# Altium schematic symbol library Microchip Power Management Switching Regulator.SchLib: 304 symbols (part 7 of 8)
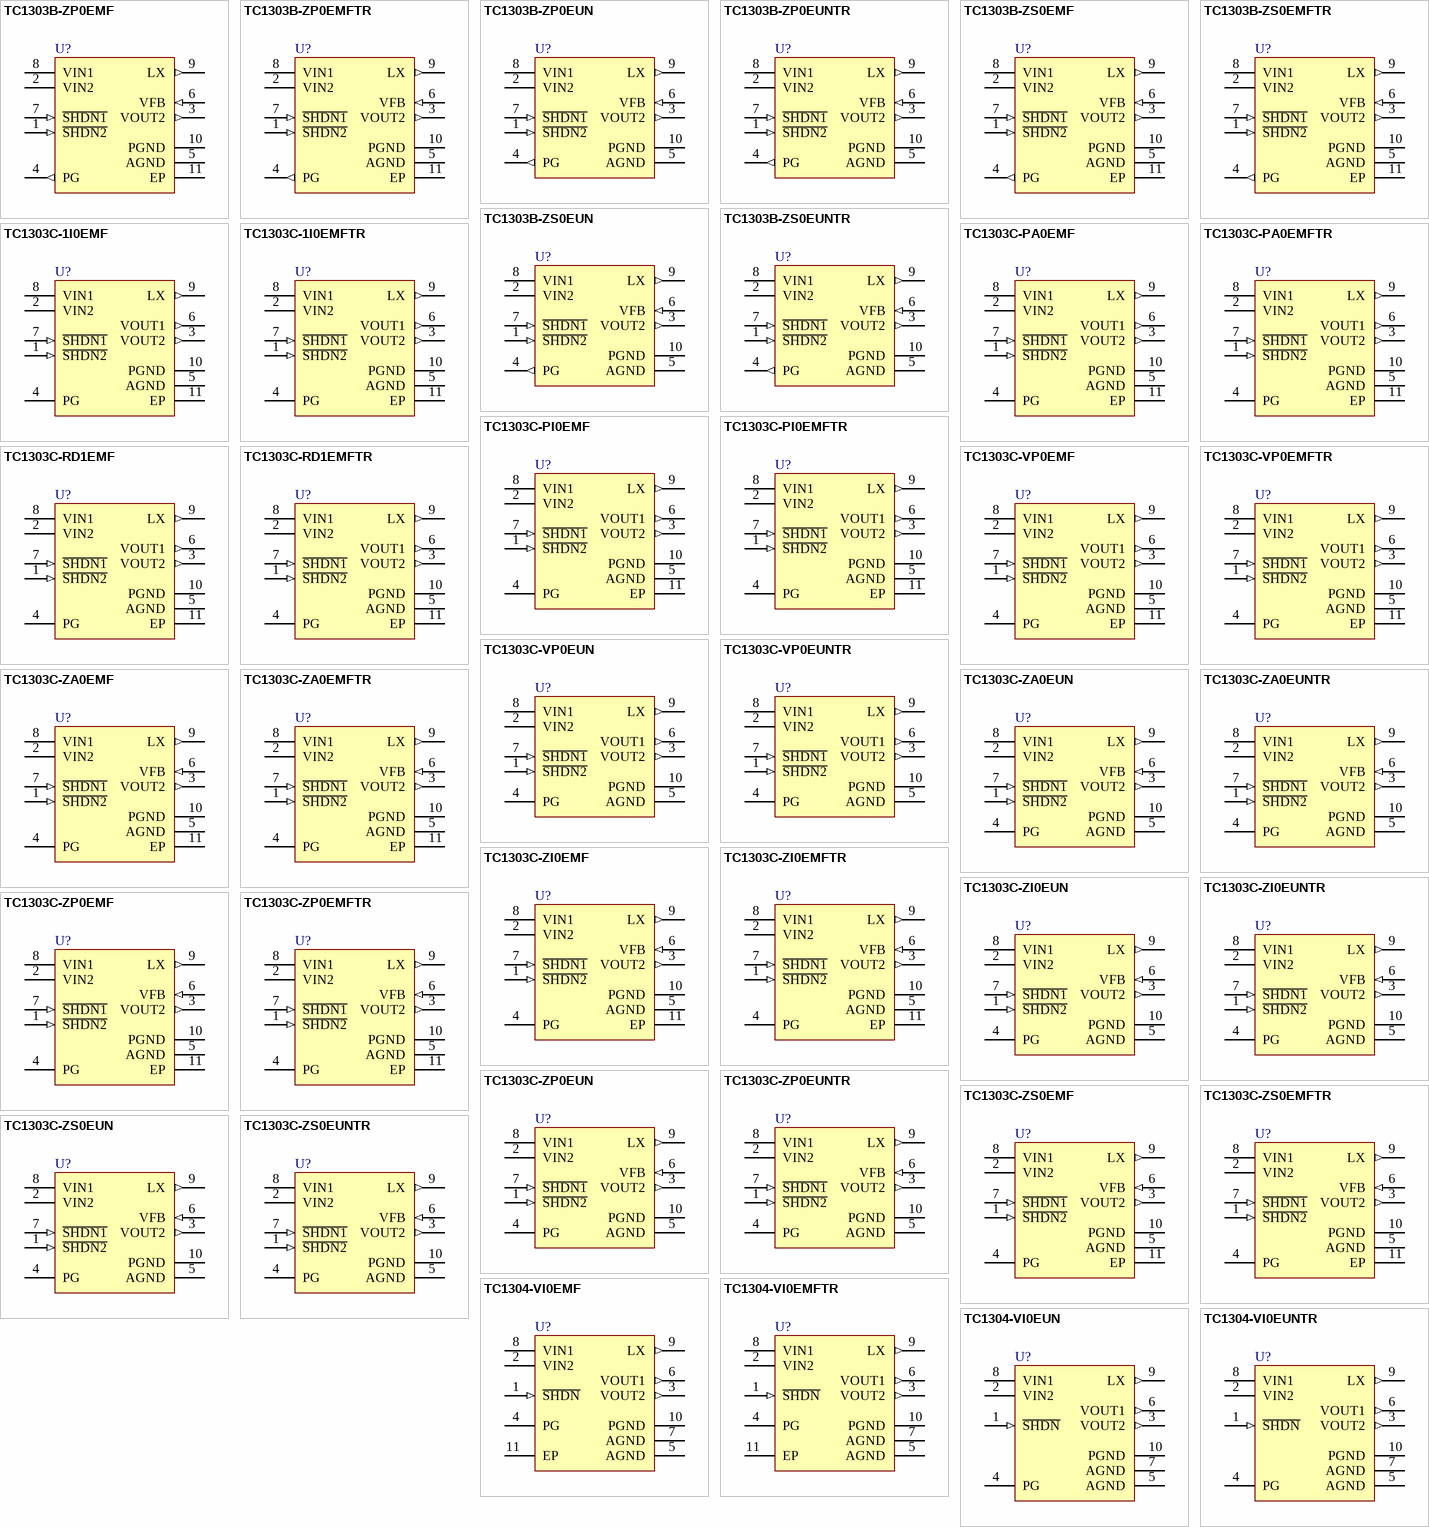
[diagram p13: symbols TC1303B-ZP0EMF to TC1304-VI0EUNTR]

## TC1303C-ZI0EUNTR
designator U?
500mA Synchronous Buck Regulator + 300mA LDO with Power-Good Output, Adjustable, 2.5V, 10-Pin MSOP, Industrial Temperature, Tape and Reel; Manufacturer: Microchip; PartNumber: TC1303C-ZI0EUNTR; DatasheetVersion: revB, Jul-2005; PackageVersion: revBB, Aug-2009; PackageReference: MSOP-UN10; PackageDescription: 10-Lead Plastic Micro Small Outline Package (UN) [MSOP]; Supplier 1: Digi-Key; Supplier Part Number 1: TC1303C-ZI0EUNTR-ND; Mounting Technology: Surface Mount; ComponentLink1Description: Manufacturer URL; ComponentLink1URL: http://www.microchip.com/; ComponentLink2Description: Datasheet; ComponentLink2URL: http://ww1.microchip.com/downloads/en/DeviceDoc/21949b.pdf; ComponentLink3Description: Package Specification; ComponentLink3URL: http://www.microchip.com/stellent/groups/techpub_sg/documents/packagingspec/en012702.pdf
footprint MSOP-UN10_N (TSSOP, 10-Leads, Body 3x3mm, Pitch 0.5mm, IPC Medium Density)
footprint MSOP-UN10_L (TSSOP, 10-Leads, Body 3x3mm, Pitch 0.5mm, IPC High Density)
footprint MSOP-UN10_M (TSSOP, 10-Leads, Body 3x3mm, Pitch 0.5mm, IPC Low Density)
pins: 1 ~{SHDN2} (in), 2 VIN2 (power), 3 VOUT2 (out), 4 PG (oc), 5 AGND (power), 6 VFB (in), 7 ~{SHDN1} (in), 8 VIN1 (power), 9 LX (out), 10 PGND (power)

## TC1303C-ZP0EMF
designator U?
500mA Synchronous Buck Regulator + 300mA LDO with Power-Good Output, Adjustable, 1.8V, 10-Pin DFN, Industrial Temperature; Manufacturer: Microchip; PartNumber: TC1303C-ZP0EMF; DatasheetVersion: revB, Jul-2005; PackageVersion: revBB, Aug-2009; PackageReference: DFN-MF10; PackageDescription: 10-Lead Plastic Dual Flat, No Lead Package (MF) - 3x3x0.9mm Body [DFN]; Supplier 1: Digi-Key; Supplier Part Number 1: TC1303C-ZP0EMF-ND; Mounting Technology: Surface Mount; ComponentLink1Description: Manufacturer URL; ComponentLink1URL: http://www.microchip.com/; ComponentLink2Description: Datasheet; ComponentLink2URL: http://ww1.microchip.com/downloads/en/DeviceDoc/21949b.pdf; ComponentLink3Description: Package Specification; ComponentLink3URL: http://www.microchip.com/stellent/groups/techpub_sg/documents/packagingspec/en012702.pdf
footprint DFN-MF10 (SON, 10-Leads, Body 3x3mm, Pitch 0.5mm, Microchip Recommended)
pins: 1 ~{SHDN2} (in), 2 VIN2 (power), 3 VOUT2 (out), 4 PG (oc), 5 AGND (power), 6 VFB (in), 7 ~{SHDN1} (in), 8 VIN1 (power), 9 LX (out), 10 PGND (power), 11 EP (power)

## TC1303C-ZP0EMFTR
designator U?
500mA Synchronous Buck Regulator + 300mA LDO with Power-Good Output, Adjustable, 1.8V, 10-Pin DFN, Industrial Temperature, Tape and Reel; Manufacturer: Microchip; PartNumber: TC1303C-ZP0EMFTR; DatasheetVersion: revB, Jul-2005; PackageVersion: revBB, Aug-2009; PackageReference: DFN-MF10; PackageDescription: 10-Lead Plastic Dual Flat, No Lead Package (MF) - 3x3x0.9mm Body [DFN]; Supplier 1: Digi-Key; Supplier Part Number 1: TC1303C-ZP0EMFTR-ND; Mounting Technology: Surface Mount; ComponentLink1Description: Manufacturer URL; ComponentLink1URL: http://www.microchip.com/; ComponentLink2Description: Datasheet; ComponentLink2URL: http://ww1.microchip.com/downloads/en/DeviceDoc/21949b.pdf; ComponentLink3Description: Package Specification; ComponentLink3URL: http://www.microchip.com/stellent/groups/techpub_sg/documents/packagingspec/en012702.pdf
footprint DFN-MF10 (SON, 10-Leads, Body 3x3mm, Pitch 0.5mm, Microchip Recommended)
pins: 1 ~{SHDN2} (in), 2 VIN2 (power), 3 VOUT2 (out), 4 PG (oc), 5 AGND (power), 6 VFB (in), 7 ~{SHDN1} (in), 8 VIN1 (power), 9 LX (out), 10 PGND (power), 11 EP (power)

## TC1303C-ZP0EUN
designator U?
500mA Synchronous Buck Regulator + 300mA LDO with Power-Good Output, Adjustable, 1.8V, 10-Pin MSOP, Industrial Temperature; Manufacturer: Microchip; PartNumber: TC1303C-ZP0EUN; DatasheetVersion: revB, Jul-2005; PackageVersion: revBB, Aug-2009; PackageReference: MSOP-UN10; PackageDescription: 10-Lead Plastic Micro Small Outline Package (UN) [MSOP]; Supplier 1: Digi-Key; Supplier Part Number 1: TC1303C-ZP0EUN-ND; Mounting Technology: Surface Mount; ComponentLink1Description: Manufacturer URL; ComponentLink1URL: http://www.microchip.com/; ComponentLink2Description: Datasheet; ComponentLink2URL: http://ww1.microchip.com/downloads/en/DeviceDoc/21949b.pdf; ComponentLink3Description: Package Specification; ComponentLink3URL: http://www.microchip.com/stellent/groups/techpub_sg/documents/packagingspec/en012702.pdf
footprint MSOP-UN10_N (TSSOP, 10-Leads, Body 3x3mm, Pitch 0.5mm, IPC Medium Density)
footprint MSOP-UN10_L (TSSOP, 10-Leads, Body 3x3mm, Pitch 0.5mm, IPC High Density)
footprint MSOP-UN10_M (TSSOP, 10-Leads, Body 3x3mm, Pitch 0.5mm, IPC Low Density)
pins: 1 ~{SHDN2} (in), 2 VIN2 (power), 3 VOUT2 (out), 4 PG (oc), 5 AGND (power), 6 VFB (in), 7 ~{SHDN1} (in), 8 VIN1 (power), 9 LX (out), 10 PGND (power)

## TC1303C-ZP0EUNTR
designator U?
500mA Synchronous Buck Regulator + 300mA LDO with Power-Good Output, Adjustable, 1.8V, 10-Pin MSOP, Industrial Temperature, Tape and Reel; Manufacturer: Microchip; PartNumber: TC1303C-ZP0EUNTR; DatasheetVersion: revB, Jul-2005; PackageVersion: revBB, Aug-2009; PackageReference: MSOP-UN10; PackageDescription: 10-Lead Plastic Micro Small Outline Package (UN) [MSOP]; Supplier 1: Digi-Key; Supplier Part Number 1: TC1303C-ZP0EUNTR-ND; Mounting Technology: Surface Mount; ComponentLink1Description: Manufacturer URL; ComponentLink1URL: http://www.microchip.com/; ComponentLink2Description: Datasheet; ComponentLink2URL: http://ww1.microchip.com/downloads/en/DeviceDoc/21949b.pdf; ComponentLink3Description: Package Specification; ComponentLink3URL: http://www.microchip.com/stellent/groups/techpub_sg/documents/packagingspec/en012702.pdf
footprint MSOP-UN10_N (TSSOP, 10-Leads, Body 3x3mm, Pitch 0.5mm, IPC Medium Density)
footprint MSOP-UN10_L (TSSOP, 10-Leads, Body 3x3mm, Pitch 0.5mm, IPC High Density)
footprint MSOP-UN10_M (TSSOP, 10-Leads, Body 3x3mm, Pitch 0.5mm, IPC Low Density)
pins: 1 ~{SHDN2} (in), 2 VIN2 (power), 3 VOUT2 (out), 4 PG (oc), 5 AGND (power), 6 VFB (in), 7 ~{SHDN1} (in), 8 VIN1 (power), 9 LX (out), 10 PGND (power)

## TC1303C-ZS0EMF
designator U?
500mA Synchronous Buck Regulator + 300mA LDO with Power-Good Output, Adjustable, 1.5V, 10-Pin DFN, Industrial Temperature; Manufacturer: Microchip; PartNumber: TC1303C-ZS0EMF; DatasheetVersion: revB, Jul-2005; PackageVersion: revBB, Aug-2009; PackageReference: DFN-MF10; PackageDescription: 10-Lead Plastic Dual Flat, No Lead Package (MF) - 3x3x0.9mm Body [DFN]; Supplier 1: Digi-Key; Supplier Part Number 1: TC1303C-ZS0EMF-ND; Mounting Technology: Surface Mount; ComponentLink1Description: Manufacturer URL; ComponentLink1URL: http://www.microchip.com/; ComponentLink2Description: Datasheet; ComponentLink2URL: http://ww1.microchip.com/downloads/en/DeviceDoc/21949b.pdf; ComponentLink3Description: Package Specification; ComponentLink3URL: http://www.microchip.com/stellent/groups/techpub_sg/documents/packagingspec/en012702.pdf
footprint DFN-MF10 (SON, 10-Leads, Body 3x3mm, Pitch 0.5mm, Microchip Recommended)
pins: 1 ~{SHDN2} (in), 2 VIN2 (power), 3 VOUT2 (out), 4 PG (oc), 5 AGND (power), 6 VFB (in), 7 ~{SHDN1} (in), 8 VIN1 (power), 9 LX (out), 10 PGND (power), 11 EP (power)

## TC1303C-ZS0EMFTR
designator U?
500mA Synchronous Buck Regulator + 300mA LDO with Power-Good Output, Adjustable, 1.5V, 10-Pin DFN, Industrial Temperature, Tape and Reel; Manufacturer: Microchip; PartNumber: TC1303C-ZS0EMFTR; DatasheetVersion: revB, Jul-2005; PackageVersion: revBB, Aug-2009; PackageReference: DFN-MF10; PackageDescription: 10-Lead Plastic Dual Flat, No Lead Package (MF) - 3x3x0.9mm Body [DFN]; Supplier 1: Digi-Key; Supplier Part Number 1: TC1303C-ZS0EMFTR-ND; Mounting Technology: Surface Mount; ComponentLink1Description: Manufacturer URL; ComponentLink1URL: http://www.microchip.com/; ComponentLink2Description: Datasheet; ComponentLink2URL: http://ww1.microchip.com/downloads/en/DeviceDoc/21949b.pdf; ComponentLink3Description: Package Specification; ComponentLink3URL: http://www.microchip.com/stellent/groups/techpub_sg/documents/packagingspec/en012702.pdf
footprint DFN-MF10 (SON, 10-Leads, Body 3x3mm, Pitch 0.5mm, Microchip Recommended)
pins: 1 ~{SHDN2} (in), 2 VIN2 (power), 3 VOUT2 (out), 4 PG (oc), 5 AGND (power), 6 VFB (in), 7 ~{SHDN1} (in), 8 VIN1 (power), 9 LX (out), 10 PGND (power), 11 EP (power)

## TC1303C-ZS0EUN
designator U?
500mA Synchronous Buck Regulator + 300mA LDO with Power-Good Output, Adjustable, 1.5V, 10-Pin MSOP, Industrial Temperature; Manufacturer: Microchip; PartNumber: TC1303C-ZS0EUN; DatasheetVersion: revB, Jul-2005; PackageVersion: revBB, Aug-2009; PackageReference: MSOP-UN10; PackageDescription: 10-Lead Plastic Micro Small Outline Package (UN) [MSOP]; Supplier 1: Digi-Key; Supplier Part Number 1: TC1303C-ZS0EUN-ND; Mounting Technology: Surface Mount; ComponentLink1Description: Manufacturer URL; ComponentLink1URL: http://www.microchip.com/; ComponentLink2Description: Datasheet; ComponentLink2URL: http://ww1.microchip.com/downloads/en/DeviceDoc/21949b.pdf; ComponentLink3Description: Package Specification; ComponentLink3URL: http://www.microchip.com/stellent/groups/techpub_sg/documents/packagingspec/en012702.pdf
footprint MSOP-UN10_N (TSSOP, 10-Leads, Body 3x3mm, Pitch 0.5mm, IPC Medium Density)
footprint MSOP-UN10_L (TSSOP, 10-Leads, Body 3x3mm, Pitch 0.5mm, IPC High Density)
footprint MSOP-UN10_M (TSSOP, 10-Leads, Body 3x3mm, Pitch 0.5mm, IPC Low Density)
pins: 1 ~{SHDN2} (in), 2 VIN2 (power), 3 VOUT2 (out), 4 PG (oc), 5 AGND (power), 6 VFB (in), 7 ~{SHDN1} (in), 8 VIN1 (power), 9 LX (out), 10 PGND (power)

## TC1303C-ZS0EUNTR
designator U?
500mA Synchronous Buck Regulator + 300mA LDO with Power-Good Output, Adjustable, 1.5V, 10-Pin MSOP, Industrial Temperature, Tape and Reel; Manufacturer: Microchip; PartNumber: TC1303C-ZS0EUNTR; DatasheetVersion: revB, Jul-2005; PackageVersion: revBB, Aug-2009; PackageReference: MSOP-UN10; PackageDescription: 10-Lead Plastic Micro Small Outline Package (UN) [MSOP]; Supplier 1: Digi-Key; Supplier Part Number 1: TC1303C-ZS0EUNTR-ND; Mounting Technology: Surface Mount; ComponentLink1Description: Manufacturer URL; ComponentLink1URL: http://www.microchip.com/; ComponentLink2Description: Datasheet; ComponentLink2URL: http://ww1.microchip.com/downloads/en/DeviceDoc/21949b.pdf; ComponentLink3Description: Package Specification; ComponentLink3URL: http://www.microchip.com/stellent/groups/techpub_sg/documents/packagingspec/en012702.pdf
footprint MSOP-UN10_N (TSSOP, 10-Leads, Body 3x3mm, Pitch 0.5mm, IPC Medium Density)
footprint MSOP-UN10_L (TSSOP, 10-Leads, Body 3x3mm, Pitch 0.5mm, IPC High Density)
footprint MSOP-UN10_M (TSSOP, 10-Leads, Body 3x3mm, Pitch 0.5mm, IPC Low Density)
pins: 1 ~{SHDN2} (in), 2 VIN2 (power), 3 VOUT2 (out), 4 PG (oc), 5 AGND (power), 6 VFB (in), 7 ~{SHDN1} (in), 8 VIN1 (power), 9 LX (out), 10 PGND (power)

## TC1304-VI0EMF
designator U?
500mA Synchronous Buck Regulator + 300mA LDO with Power-Good Output, 1.2V, 2.5V, 10-Pin DFN, Industrial Temperature; Manufacturer: Microchip; PartNumber: TC1304-VI0EMF; DatasheetVersion: revB, Jul-2005; PackageVersion: revBB, Aug-2009; PackageReference: DFN-MF10; PackageDescription: 10-Lead Plastic Dual Flat, No Lead Package (MF) - 3x3x0.9mm Body [DFN]; Supplier 1: Digi-Key; Supplier Part Number 1: TC1304-VI0EMF-ND; Mounting Technology: Surface Mount; ComponentLink1Description: Manufacturer URL; ComponentLink1URL: http://www.microchip.com/; ComponentLink2Description: Datasheet; ComponentLink2URL: http://ww1.microchip.com/downloads/en/DeviceDoc/21949b.pdf; ComponentLink3Description: Package Specification; ComponentLink3URL: http://www.microchip.com/stellent/groups/techpub_sg/documents/packagingspec/en012702.pdf
footprint DFN-MF10 (SON, 10-Leads, Body 3x3mm, Pitch 0.5mm, Microchip Recommended)
pins: 1 ~{SHDN} (in), 2 VIN2 (power), 3 VOUT2 (out), 4 PG (oc), 5 AGND (power), 6 VOUT1 (out), 7 AGND (power), 8 VIN1 (power), 9 LX (out), 10 PGND (power), 11 EP (power)

## TC1304-VI0EMFTR
designator U?
500mA Synchronous Buck Regulator + 300mA LDO with Power-Good Output, 1.2V, 2.5V, 10-Pin DFN, Industrial Temperature, Tape and Reel; Manufacturer: Microchip; PartNumber: TC1304-VI0EMFTR; DatasheetVersion: revB, Jul-2005; PackageVersion: revBB, Aug-2009; PackageReference: DFN-MF10; PackageDescription: 10-Lead Plastic Dual Flat, No Lead Package (MF) - 3x3x0.9mm Body [DFN]; Supplier 1: Digi-Key; Supplier Part Number 1: TC1304-VI0EMFTR-ND; Mounting Technology: Surface Mount; ComponentLink1Description: Manufacturer URL; ComponentLink1URL: http://www.microchip.com/; ComponentLink2Description: Datasheet; ComponentLink2URL: http://ww1.microchip.com/downloads/en/DeviceDoc/21949b.pdf; ComponentLink3Description: Package Specification; ComponentLink3URL: http://www.microchip.com/stellent/groups/techpub_sg/documents/packagingspec/en012702.pdf
footprint DFN-MF10 (SON, 10-Leads, Body 3x3mm, Pitch 0.5mm, Microchip Recommended)
pins: 1 ~{SHDN} (in), 2 VIN2 (power), 3 VOUT2 (out), 4 PG (oc), 5 AGND (power), 6 VOUT1 (out), 7 AGND (power), 8 VIN1 (power), 9 LX (out), 10 PGND (power), 11 EP (power)

## TC1304-VI0EUN
designator U?
500mA Synchronous Buck Regulator + 300mA LDO with Power-Good Output, 1.2V, 2.5V, 10-Pin MSOP, Industrial Temperature; Manufacturer: Microchip; PartNumber: TC1304-VI0EUN; DatasheetVersion: revB, Jul-2005; PackageVersion: revBB, Aug-2009; PackageReference: MSOP-UN10; PackageDescription: 10-Lead Plastic Micro Small Outline Package (UN) [MSOP]; Supplier 1: Digi-Key; Supplier Part Number 1: TC1304-VI0EUN-ND; Mounting Technology: Surface Mount; ComponentLink1Description: Manufacturer URL; ComponentLink1URL: http://www.microchip.com/; ComponentLink2Description: Datasheet; ComponentLink2URL: http://ww1.microchip.com/downloads/en/DeviceDoc/21949b.pdf; ComponentLink3Description: Package Specification; ComponentLink3URL: http://www.microchip.com/stellent/groups/techpub_sg/documents/packagingspec/en012702.pdf
footprint MSOP-UN10_N (TSSOP, 10-Leads, Body 3x3mm, Pitch 0.5mm, IPC Medium Density)
footprint MSOP-UN10_L (TSSOP, 10-Leads, Body 3x3mm, Pitch 0.5mm, IPC High Density)
footprint MSOP-UN10_M (TSSOP, 10-Leads, Body 3x3mm, Pitch 0.5mm, IPC Low Density)
pins: 1 ~{SHDN} (in), 2 VIN2 (power), 3 VOUT2 (out), 4 PG (oc), 5 AGND (power), 6 VOUT1 (out), 7 AGND (power), 8 VIN1 (power), 9 LX (out), 10 PGND (power)

## TC1304-VI0EUNTR
designator U?
500mA Synchronous Buck Regulator + 300mA LDO with Power-Good Output, 1.2V, 2.5V, 10-Pin MSOP, Industrial Temperature, Tape and Reel; Manufacturer: Microchip; PartNumber: TC1304-VI0EUNTR; DatasheetVersion: revB, Jul-2005; PackageVersion: revBB, Aug-2009; PackageReference: MSOP-UN10; PackageDescription: 10-Lead Plastic Micro Small Outline Package (UN) [MSOP]; Supplier 1: Digi-Key; Supplier Part Number 1: TC1304-VI0EUNTR-ND; Mounting Technology: Surface Mount; ComponentLink1Description: Manufacturer URL; ComponentLink1URL: http://www.microchip.com/; ComponentLink2Description: Datasheet; ComponentLink2URL: http://ww1.microchip.com/downloads/en/DeviceDoc/21949b.pdf; ComponentLink3Description: Package Specification; ComponentLink3URL: http://www.microchip.com/stellent/groups/techpub_sg/documents/packagingspec/en012702.pdf
footprint MSOP-UN10_N (TSSOP, 10-Leads, Body 3x3mm, Pitch 0.5mm, IPC Medium Density)
footprint MSOP-UN10_L (TSSOP, 10-Leads, Body 3x3mm, Pitch 0.5mm, IPC High Density)
footprint MSOP-UN10_M (TSSOP, 10-Leads, Body 3x3mm, Pitch 0.5mm, IPC Low Density)
pins: 1 ~{SHDN} (in), 2 VIN2 (power), 3 VOUT2 (out), 4 PG (oc), 5 AGND (power), 6 VOUT1 (out), 7 AGND (power), 8 VIN1 (power), 9 LX (out), 10 PGND (power)

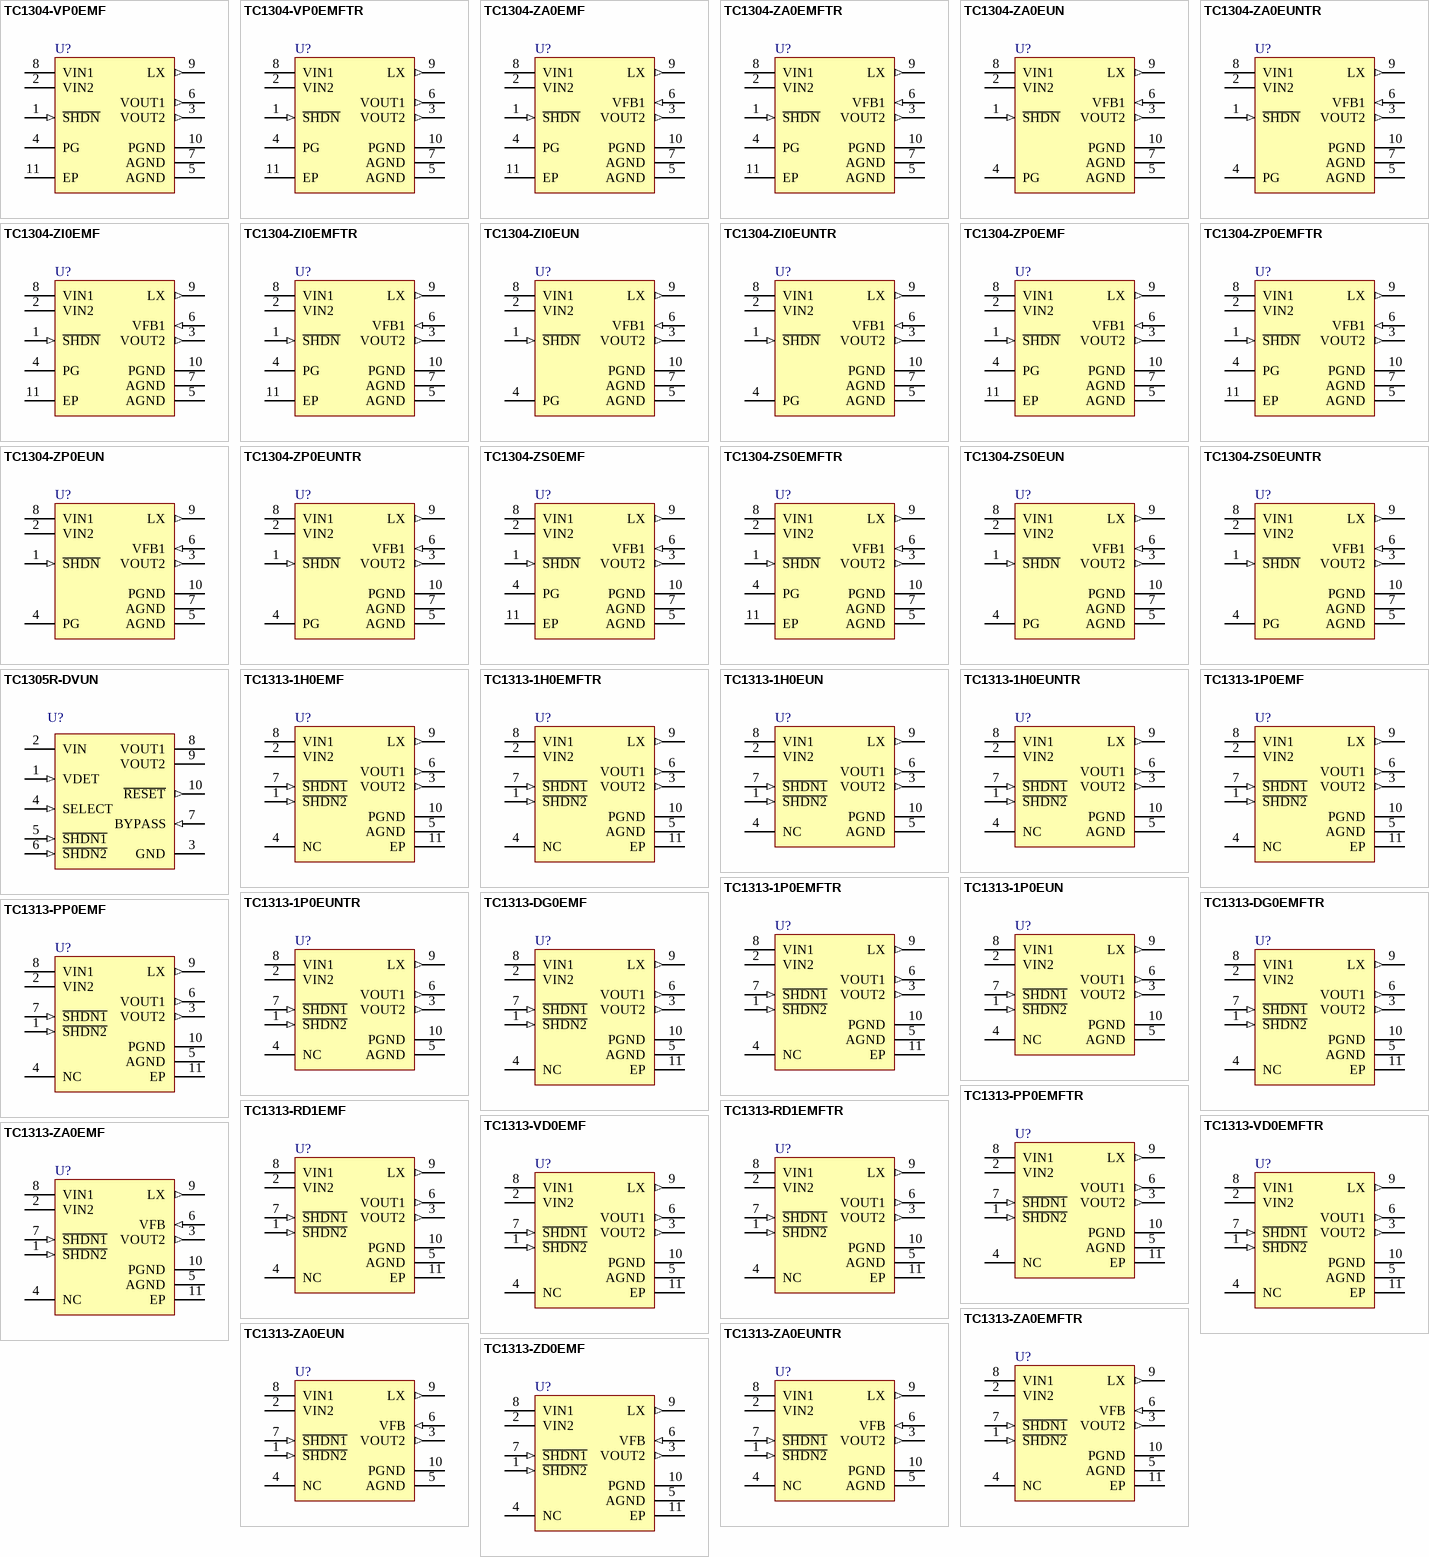
[diagram p6: symbols TC1304-VP0EMF to TC1313-ZD0EMF]

## TC1304-VP0EMF
designator U?
500mA Synchronous Buck Regulator + 300mA LDO with Power-Good Output, 1.2V, 1.8V, 10-Pin DFN, Industrial Temperature; Manufacturer: Microchip; PartNumber: TC1304-VP0EMF; DatasheetVersion: revB, Jul-2005; PackageVersion: revBB, Aug-2009; PackageReference: DFN-MF10; PackageDescription: 10-Lead Plastic Dual Flat, No Lead Package (MF) - 3x3x0.9mm Body [DFN]; Supplier 1: Digi-Key; Supplier Part Number 1: TC1304-VP0EMF-ND; Mounting Technology: Surface Mount; ComponentLink1Description: Manufacturer URL; ComponentLink1URL: http://www.microchip.com/; ComponentLink2Description: Datasheet; ComponentLink2URL: http://ww1.microchip.com/downloads/en/DeviceDoc/21949b.pdf; ComponentLink3Description: Package Specification; ComponentLink3URL: http://www.microchip.com/stellent/groups/techpub_sg/documents/packagingspec/en012702.pdf
footprint DFN-MF10 (SON, 10-Leads, Body 3x3mm, Pitch 0.5mm, Microchip Recommended)
pins: 1 ~{SHDN} (in), 2 VIN2 (power), 3 VOUT2 (out), 4 PG (oc), 5 AGND (power), 6 VOUT1 (out), 7 AGND (power), 8 VIN1 (power), 9 LX (out), 10 PGND (power), 11 EP (power)

## TC1304-VP0EMFTR
designator U?
500mA Synchronous Buck Regulator + 300mA LDO with Power-Good Output, 1.2V, 1.8V, 10-Pin DFN, Industrial Temperature, Tape and Reel; Manufacturer: Microchip; PartNumber: TC1304-VP0EMFTR; DatasheetVersion: revB, Jul-2005; PackageVersion: revBB, Aug-2009; PackageReference: DFN-MF10; PackageDescription: 10-Lead Plastic Dual Flat, No Lead Package (MF) - 3x3x0.9mm Body [DFN]; Supplier 1: Digi-Key; Supplier Part Number 1: TC1304-VP0EMFTR-ND; Mounting Technology: Surface Mount; ComponentLink1Description: Manufacturer URL; ComponentLink1URL: http://www.microchip.com/; ComponentLink2Description: Datasheet; ComponentLink2URL: http://ww1.microchip.com/downloads/en/DeviceDoc/21949b.pdf; ComponentLink3Description: Package Specification; ComponentLink3URL: http://www.microchip.com/stellent/groups/techpub_sg/documents/packagingspec/en012702.pdf
footprint DFN-MF10 (SON, 10-Leads, Body 3x3mm, Pitch 0.5mm, Microchip Recommended)
pins: 1 ~{SHDN} (in), 2 VIN2 (power), 3 VOUT2 (out), 4 PG (oc), 5 AGND (power), 6 VOUT1 (out), 7 AGND (power), 8 VIN1 (power), 9 LX (out), 10 PGND (power), 11 EP (power)

## TC1304-ZA0EMF
designator U?
500mA Synchronous Buck Regulator + 300mA LDO with Power-Good Output, Adjustable, 3.3V, 10-Pin DFN, Industrial Temperature; Manufacturer: Microchip; PartNumber: TC1304-ZA0EMF; DatasheetVersion: revB, Jul-2005; PackageVersion: revBB, Aug-2009; PackageReference: DFN-MF10; PackageDescription: 10-Lead Plastic Dual Flat, No Lead Package (MF) - 3x3x0.9mm Body [DFN]; Supplier 1: Digi-Key; Supplier Part Number 1: TC1304-ZA0EMF-ND; Mounting Technology: Surface Mount; ComponentLink1Description: Manufacturer URL; ComponentLink1URL: http://www.microchip.com/; ComponentLink2Description: Datasheet; ComponentLink2URL: http://ww1.microchip.com/downloads/en/DeviceDoc/21949b.pdf; ComponentLink3Description: Package Specification; ComponentLink3URL: http://www.microchip.com/stellent/groups/techpub_sg/documents/packagingspec/en012702.pdf
footprint DFN-MF10 (SON, 10-Leads, Body 3x3mm, Pitch 0.5mm, Microchip Recommended)
pins: 1 ~{SHDN} (in), 2 VIN2 (power), 3 VOUT2 (out), 4 PG (oc), 5 AGND (power), 6 VFB1 (in), 7 AGND (power), 8 VIN1 (power), 9 LX (out), 10 PGND (power), 11 EP (power)

## TC1304-ZA0EMFTR
designator U?
500mA Synchronous Buck Regulator + 300mA LDO with Power-Good Output, Adjustable, 3.3V, 10-Pin DFN, Industrial Temperature, Tape and Reel; Manufacturer: Microchip; PartNumber: TC1304-ZA0EMFTR; DatasheetVersion: revB, Jul-2005; PackageVersion: revBB, Aug-2009; PackageReference: DFN-MF10; PackageDescription: 10-Lead Plastic Dual Flat, No Lead Package (MF) - 3x3x0.9mm Body [DFN]; Supplier 1: Digi-Key; Supplier Part Number 1: TC1304-ZA0EMFTR-ND; Mounting Technology: Surface Mount; ComponentLink1Description: Manufacturer URL; ComponentLink1URL: http://www.microchip.com/; ComponentLink2Description: Datasheet; ComponentLink2URL: http://ww1.microchip.com/downloads/en/DeviceDoc/21949b.pdf; ComponentLink3Description: Package Specification; ComponentLink3URL: http://www.microchip.com/stellent/groups/techpub_sg/documents/packagingspec/en012702.pdf
footprint DFN-MF10 (SON, 10-Leads, Body 3x3mm, Pitch 0.5mm, Microchip Recommended)
pins: 1 ~{SHDN} (in), 2 VIN2 (power), 3 VOUT2 (out), 4 PG (oc), 5 AGND (power), 6 VFB1 (in), 7 AGND (power), 8 VIN1 (power), 9 LX (out), 10 PGND (power), 11 EP (power)

## TC1304-ZA0EUN
designator U?
500mA Synchronous Buck Regulator + 300mA LDO with Power-Good Output, Adjustable, 3.3V, 10-Pin MSOP, Industrial Temperature; Manufacturer: Microchip; PartNumber: TC1304-ZA0EUN; DatasheetVersion: revB, Jul-2005; PackageVersion: revBB, Aug-2009; PackageReference: MSOP-UN10; PackageDescription: 10-Lead Plastic Micro Small Outline Package (UN) [MSOP]; Supplier 1: Digi-Key; Supplier Part Number 1: TC1304-ZA0EUN-ND; Mounting Technology: Surface Mount; ComponentLink1Description: Manufacturer URL; ComponentLink1URL: http://www.microchip.com/; ComponentLink2Description: Datasheet; ComponentLink2URL: http://ww1.microchip.com/downloads/en/DeviceDoc/21949b.pdf; ComponentLink3Description: Package Specification; ComponentLink3URL: http://www.microchip.com/stellent/groups/techpub_sg/documents/packagingspec/en012702.pdf
footprint MSOP-UN10_N (TSSOP, 10-Leads, Body 3x3mm, Pitch 0.5mm, IPC Medium Density)
footprint MSOP-UN10_L (TSSOP, 10-Leads, Body 3x3mm, Pitch 0.5mm, IPC High Density)
footprint MSOP-UN10_M (TSSOP, 10-Leads, Body 3x3mm, Pitch 0.5mm, IPC Low Density)
pins: 1 ~{SHDN} (in), 2 VIN2 (power), 3 VOUT2 (out), 4 PG (oc), 5 AGND (power), 6 VFB1 (in), 7 AGND (power), 8 VIN1 (power), 9 LX (out), 10 PGND (power)

## TC1304-ZA0EUNTR
designator U?
500mA Synchronous Buck Regulator + 300mA LDO with Power-Good Output, Adjustable, 3.3V, 10-Pin MSOP, Industrial Temperature, Tape and Reel; Manufacturer: Microchip; PartNumber: TC1304-ZA0EUNTR; DatasheetVersion: revB, Jul-2005; PackageVersion: revBB, Aug-2009; PackageReference: MSOP-UN10; PackageDescription: 10-Lead Plastic Micro Small Outline Package (UN) [MSOP]; Supplier 1: Digi-Key; Supplier Part Number 1: TC1304-ZA0EUNTR-ND; Mounting Technology: Surface Mount; ComponentLink1Description: Manufacturer URL; ComponentLink1URL: http://www.microchip.com/; ComponentLink2Description: Datasheet; ComponentLink2URL: http://ww1.microchip.com/downloads/en/DeviceDoc/21949b.pdf; ComponentLink3Description: Package Specification; ComponentLink3URL: http://www.microchip.com/stellent/groups/techpub_sg/documents/packagingspec/en012702.pdf
footprint MSOP-UN10_N (TSSOP, 10-Leads, Body 3x3mm, Pitch 0.5mm, IPC Medium Density)
footprint MSOP-UN10_L (TSSOP, 10-Leads, Body 3x3mm, Pitch 0.5mm, IPC High Density)
footprint MSOP-UN10_M (TSSOP, 10-Leads, Body 3x3mm, Pitch 0.5mm, IPC Low Density)
pins: 1 ~{SHDN} (in), 2 VIN2 (power), 3 VOUT2 (out), 4 PG (oc), 5 AGND (power), 6 VFB1 (in), 7 AGND (power), 8 VIN1 (power), 9 LX (out), 10 PGND (power)

## TC1304-ZI0EMF
designator U?
500mA Synchronous Buck Regulator + 300mA LDO with Power-Good Output, Adjustable, 2.5V, 10-Pin DFN, Industrial Temperature; Manufacturer: Microchip; PartNumber: TC1304-ZI0EMF; DatasheetVersion: revB, Jul-2005; PackageVersion: revBB, Aug-2009; PackageReference: DFN-MF10; PackageDescription: 10-Lead Plastic Dual Flat, No Lead Package (MF) - 3x3x0.9mm Body [DFN]; Supplier 1: Digi-Key; Supplier Part Number 1: TC1304-ZI0EMF-ND; Mounting Technology: Surface Mount; ComponentLink1Description: Manufacturer URL; ComponentLink1URL: http://www.microchip.com/; ComponentLink2Description: Datasheet; ComponentLink2URL: http://ww1.microchip.com/downloads/en/DeviceDoc/21949b.pdf; ComponentLink3Description: Package Specification; ComponentLink3URL: http://www.microchip.com/stellent/groups/techpub_sg/documents/packagingspec/en012702.pdf
footprint DFN-MF10 (SON, 10-Leads, Body 3x3mm, Pitch 0.5mm, Microchip Recommended)
pins: 1 ~{SHDN} (in), 2 VIN2 (power), 3 VOUT2 (out), 4 PG (oc), 5 AGND (power), 6 VFB1 (in), 7 AGND (power), 8 VIN1 (power), 9 LX (out), 10 PGND (power), 11 EP (power)

## TC1304-ZI0EMFTR
designator U?
500mA Synchronous Buck Regulator + 300mA LDO with Power-Good Output, Adjustable, 2.5V, 10-Pin DFN, Industrial Temperature, Tape and Reel; Manufacturer: Microchip; PartNumber: TC1304-ZI0EMFTR; DatasheetVersion: revB, Jul-2005; PackageVersion: revBB, Aug-2009; PackageReference: DFN-MF10; PackageDescription: 10-Lead Plastic Dual Flat, No Lead Package (MF) - 3x3x0.9mm Body [DFN]; Supplier 1: Digi-Key; Supplier Part Number 1: TC1304-ZI0EMFTR-ND; Mounting Technology: Surface Mount; ComponentLink1Description: Manufacturer URL; ComponentLink1URL: http://www.microchip.com/; ComponentLink2Description: Datasheet; ComponentLink2URL: http://ww1.microchip.com/downloads/en/DeviceDoc/21949b.pdf; ComponentLink3Description: Package Specification; ComponentLink3URL: http://www.microchip.com/stellent/groups/techpub_sg/documents/packagingspec/en012702.pdf
footprint DFN-MF10 (SON, 10-Leads, Body 3x3mm, Pitch 0.5mm, Microchip Recommended)
pins: 1 ~{SHDN} (in), 2 VIN2 (power), 3 VOUT2 (out), 4 PG (oc), 5 AGND (power), 6 VFB1 (in), 7 AGND (power), 8 VIN1 (power), 9 LX (out), 10 PGND (power), 11 EP (power)

## TC1304-ZI0EUN
designator U?
500mA Synchronous Buck Regulator + 300mA LDO with Power-Good Output, Adjustable, 2.5V, 10-Pin MSOP, Industrial Temperature; Manufacturer: Microchip; PartNumber: TC1304-ZI0EUN; DatasheetVersion: revB, Jul-2005; PackageVersion: revBB, Aug-2009; PackageReference: MSOP-UN10; PackageDescription: 10-Lead Plastic Micro Small Outline Package (UN) [MSOP]; Supplier 1: Digi-Key; Supplier Part Number 1: TC1304-ZI0EUN-ND; Mounting Technology: Surface Mount; ComponentLink1Description: Manufacturer URL; ComponentLink1URL: http://www.microchip.com/; ComponentLink2Description: Datasheet; ComponentLink2URL: http://ww1.microchip.com/downloads/en/DeviceDoc/21949b.pdf; ComponentLink3Description: Package Specification; ComponentLink3URL: http://www.microchip.com/stellent/groups/techpub_sg/documents/packagingspec/en012702.pdf
footprint MSOP-UN10_N (TSSOP, 10-Leads, Body 3x3mm, Pitch 0.5mm, IPC Medium Density)
footprint MSOP-UN10_L (TSSOP, 10-Leads, Body 3x3mm, Pitch 0.5mm, IPC High Density)
footprint MSOP-UN10_M (TSSOP, 10-Leads, Body 3x3mm, Pitch 0.5mm, IPC Low Density)
pins: 1 ~{SHDN} (in), 2 VIN2 (power), 3 VOUT2 (out), 4 PG (oc), 5 AGND (power), 6 VFB1 (in), 7 AGND (power), 8 VIN1 (power), 9 LX (out), 10 PGND (power)

## TC1304-ZI0EUNTR
designator U?
500mA Synchronous Buck Regulator + 300mA LDO with Power-Good Output, Adjustable, 2.5V, 10-Pin MSOP, Industrial Temperature, Tape and Reel; Manufacturer: Microchip; PartNumber: TC1304-ZI0EUNTR; DatasheetVersion: revB, Jul-2005; PackageVersion: revBB, Aug-2009; PackageReference: MSOP-UN10; PackageDescription: 10-Lead Plastic Micro Small Outline Package (UN) [MSOP]; Supplier 1: Digi-Key; Supplier Part Number 1: TC1304-ZI0EUNTR-ND; Mounting Technology: Surface Mount; ComponentLink1Description: Manufacturer URL; ComponentLink1URL: http://www.microchip.com/; ComponentLink2Description: Datasheet; ComponentLink2URL: http://ww1.microchip.com/downloads/en/DeviceDoc/21949b.pdf; ComponentLink3Description: Package Specification; ComponentLink3URL: http://www.microchip.com/stellent/groups/techpub_sg/documents/packagingspec/en012702.pdf
footprint MSOP-UN10_N (TSSOP, 10-Leads, Body 3x3mm, Pitch 0.5mm, IPC Medium Density)
footprint MSOP-UN10_L (TSSOP, 10-Leads, Body 3x3mm, Pitch 0.5mm, IPC High Density)
footprint MSOP-UN10_M (TSSOP, 10-Leads, Body 3x3mm, Pitch 0.5mm, IPC Low Density)
pins: 1 ~{SHDN} (in), 2 VIN2 (power), 3 VOUT2 (out), 4 PG (oc), 5 AGND (power), 6 VFB1 (in), 7 AGND (power), 8 VIN1 (power), 9 LX (out), 10 PGND (power)

## TC1304-ZP0EMF
designator U?
500mA Synchronous Buck Regulator + 300mA LDO with Power-Good Output, Adjustable, 1.8V, 10-Pin DFN, Industrial Temperature; Manufacturer: Microchip; PartNumber: TC1304-ZP0EMF; DatasheetVersion: revB, Jul-2005; PackageVersion: revBB, Aug-2009; PackageReference: DFN-MF10; PackageDescription: 10-Lead Plastic Dual Flat, No Lead Package (MF) - 3x3x0.9mm Body [DFN]; Supplier 1: Digi-Key; Supplier Part Number 1: TC1304-ZP0EMF-ND; Mounting Technology: Surface Mount; ComponentLink1Description: Manufacturer URL; ComponentLink1URL: http://www.microchip.com/; ComponentLink2Description: Datasheet; ComponentLink2URL: http://ww1.microchip.com/downloads/en/DeviceDoc/21949b.pdf; ComponentLink3Description: Package Specification; ComponentLink3URL: http://www.microchip.com/stellent/groups/techpub_sg/documents/packagingspec/en012702.pdf
footprint DFN-MF10 (SON, 10-Leads, Body 3x3mm, Pitch 0.5mm, Microchip Recommended)
pins: 1 ~{SHDN} (in), 2 VIN2 (power), 3 VOUT2 (out), 4 PG (oc), 5 AGND (power), 6 VFB1 (in), 7 AGND (power), 8 VIN1 (power), 9 LX (out), 10 PGND (power), 11 EP (power)

## TC1304-ZP0EMFTR
designator U?
500mA Synchronous Buck Regulator + 300mA LDO with Power-Good Output, Adjustable, 1.8V, 10-Pin DFN, Industrial Temperature, Tape and Reel; Manufacturer: Microchip; PartNumber: TC1304-ZP0EMFTR; DatasheetVersion: revB, Jul-2005; PackageVersion: revBB, Aug-2009; PackageReference: DFN-MF10; PackageDescription: 10-Lead Plastic Dual Flat, No Lead Package (MF) - 3x3x0.9mm Body [DFN]; Supplier 1: Digi-Key; Supplier Part Number 1: TC1304-ZP0EMFTR-ND; Mounting Technology: Surface Mount; ComponentLink1Description: Manufacturer URL; ComponentLink1URL: http://www.microchip.com/; ComponentLink2Description: Datasheet; ComponentLink2URL: http://ww1.microchip.com/downloads/en/DeviceDoc/21949b.pdf; ComponentLink3Description: Package Specification; ComponentLink3URL: http://www.microchip.com/stellent/groups/techpub_sg/documents/packagingspec/en012702.pdf
footprint DFN-MF10 (SON, 10-Leads, Body 3x3mm, Pitch 0.5mm, Microchip Recommended)
pins: 1 ~{SHDN} (in), 2 VIN2 (power), 3 VOUT2 (out), 4 PG (oc), 5 AGND (power), 6 VFB1 (in), 7 AGND (power), 8 VIN1 (power), 9 LX (out), 10 PGND (power), 11 EP (power)

## TC1304-ZP0EUN
designator U?
500mA Synchronous Buck Regulator + 300mA LDO with Power-Good Output, Adjustable, 1.8V, 10-Pin MSOP, Industrial Temperature; Manufacturer: Microchip; PartNumber: TC1304-ZP0EUN; DatasheetVersion: revB, Jul-2005; PackageVersion: revBB, Aug-2009; PackageReference: MSOP-UN10; PackageDescription: 10-Lead Plastic Micro Small Outline Package (UN) [MSOP]; Supplier 1: Digi-Key; Supplier Part Number 1: TC1304-ZP0EUN-ND; Mounting Technology: Surface Mount; ComponentLink1Description: Manufacturer URL; ComponentLink1URL: http://www.microchip.com/; ComponentLink2Description: Datasheet; ComponentLink2URL: http://ww1.microchip.com/downloads/en/DeviceDoc/21949b.pdf; ComponentLink3Description: Package Specification; ComponentLink3URL: http://www.microchip.com/stellent/groups/techpub_sg/documents/packagingspec/en012702.pdf
footprint MSOP-UN10_N (TSSOP, 10-Leads, Body 3x3mm, Pitch 0.5mm, IPC Medium Density)
footprint MSOP-UN10_L (TSSOP, 10-Leads, Body 3x3mm, Pitch 0.5mm, IPC High Density)
footprint MSOP-UN10_M (TSSOP, 10-Leads, Body 3x3mm, Pitch 0.5mm, IPC Low Density)
pins: 1 ~{SHDN} (in), 2 VIN2 (power), 3 VOUT2 (out), 4 PG (oc), 5 AGND (power), 6 VFB1 (in), 7 AGND (power), 8 VIN1 (power), 9 LX (out), 10 PGND (power)

## TC1304-ZP0EUNTR
designator U?
500mA Synchronous Buck Regulator + 300mA LDO with Power-Good Output, Adjustable, 1.8V, 10-Pin MSOP, Industrial Temperature, Tape and Reel; Manufacturer: Microchip; PartNumber: TC1304-ZP0EUNTR; DatasheetVersion: revB, Jul-2005; PackageVersion: revBB, Aug-2009; PackageReference: MSOP-UN10; PackageDescription: 10-Lead Plastic Micro Small Outline Package (UN) [MSOP]; Supplier 1: Digi-Key; Supplier Part Number 1: TC1304-ZP0EUNTR-ND; Mounting Technology: Surface Mount; ComponentLink1Description: Manufacturer URL; ComponentLink1URL: http://www.microchip.com/; ComponentLink2Description: Datasheet; ComponentLink2URL: http://ww1.microchip.com/downloads/en/DeviceDoc/21949b.pdf; ComponentLink3Description: Package Specification; ComponentLink3URL: http://www.microchip.com/stellent/groups/techpub_sg/documents/packagingspec/en012702.pdf
footprint MSOP-UN10_N (TSSOP, 10-Leads, Body 3x3mm, Pitch 0.5mm, IPC Medium Density)
footprint MSOP-UN10_L (TSSOP, 10-Leads, Body 3x3mm, Pitch 0.5mm, IPC High Density)
footprint MSOP-UN10_M (TSSOP, 10-Leads, Body 3x3mm, Pitch 0.5mm, IPC Low Density)
pins: 1 ~{SHDN} (in), 2 VIN2 (power), 3 VOUT2 (out), 4 PG (oc), 5 AGND (power), 6 VFB1 (in), 7 AGND (power), 8 VIN1 (power), 9 LX (out), 10 PGND (power)

## TC1304-ZS0EMF
designator U?
500mA Synchronous Buck Regulator + 300mA LDO with Power-Good Output, Adjustable, 1.5V, 10-Pin DFN, Industrial Temperature; Manufacturer: Microchip; PartNumber: TC1304-ZS0EMF; DatasheetVersion: revB, Jul-2005; PackageVersion: revBB, Aug-2009; PackageReference: DFN-MF10; PackageDescription: 10-Lead Plastic Dual Flat, No Lead Package (MF) - 3x3x0.9mm Body [DFN]; Supplier 1: Digi-Key; Supplier Part Number 1: TC1304-ZS0EMF-ND; Mounting Technology: Surface Mount; ComponentLink1Description: Manufacturer URL; ComponentLink1URL: http://www.microchip.com/; ComponentLink2Description: Datasheet; ComponentLink2URL: http://ww1.microchip.com/downloads/en/DeviceDoc/21949b.pdf; ComponentLink3Description: Package Specification; ComponentLink3URL: http://www.microchip.com/stellent/groups/techpub_sg/documents/packagingspec/en012702.pdf
footprint DFN-MF10 (SON, 10-Leads, Body 3x3mm, Pitch 0.5mm, Microchip Recommended)
pins: 1 ~{SHDN} (in), 2 VIN2 (power), 3 VOUT2 (out), 4 PG (oc), 5 AGND (power), 6 VFB1 (in), 7 AGND (power), 8 VIN1 (power), 9 LX (out), 10 PGND (power), 11 EP (power)

## TC1304-ZS0EMFTR
designator U?
500mA Synchronous Buck Regulator + 300mA LDO with Power-Good Output, Adjustable, 1.5V, 10-Pin DFN, Industrial Temperature, Tape and Reel; Manufacturer: Microchip; PartNumber: TC1304-ZS0EMFTR; DatasheetVersion: revB, Jul-2005; PackageVersion: revBB, Aug-2009; PackageReference: DFN-MF10; PackageDescription: 10-Lead Plastic Dual Flat, No Lead Package (MF) - 3x3x0.9mm Body [DFN]; Supplier 1: Digi-Key; Supplier Part Number 1: TC1304-ZS0EMFTR-ND; Mounting Technology: Surface Mount; ComponentLink1Description: Manufacturer URL; ComponentLink1URL: http://www.microchip.com/; ComponentLink2Description: Datasheet; ComponentLink2URL: http://ww1.microchip.com/downloads/en/DeviceDoc/21949b.pdf; ComponentLink3Description: Package Specification; ComponentLink3URL: http://www.microchip.com/stellent/groups/techpub_sg/documents/packagingspec/en012702.pdf
footprint DFN-MF10 (SON, 10-Leads, Body 3x3mm, Pitch 0.5mm, Microchip Recommended)
pins: 1 ~{SHDN} (in), 2 VIN2 (power), 3 VOUT2 (out), 4 PG (oc), 5 AGND (power), 6 VFB1 (in), 7 AGND (power), 8 VIN1 (power), 9 LX (out), 10 PGND (power), 11 EP (power)

## TC1304-ZS0EUN
designator U?
500mA Synchronous Buck Regulator + 300mA LDO with Power-Good Output, Adjustable, 1.5V, 10-Pin MSOP, Industrial Temperature; Manufacturer: Microchip; PartNumber: TC1304-ZS0EUN; DatasheetVersion: revB, Jul-2005; PackageVersion: revBB, Aug-2009; PackageReference: MSOP-UN10; PackageDescription: 10-Lead Plastic Micro Small Outline Package (UN) [MSOP]; Supplier 1: Digi-Key; Supplier Part Number 1: TC1304-ZS0EUN-ND; Mounting Technology: Surface Mount; ComponentLink1Description: Manufacturer URL; ComponentLink1URL: http://www.microchip.com/; ComponentLink2Description: Datasheet; ComponentLink2URL: http://ww1.microchip.com/downloads/en/DeviceDoc/21949b.pdf; ComponentLink3Description: Package Specification; ComponentLink3URL: http://www.microchip.com/stellent/groups/techpub_sg/documents/packagingspec/en012702.pdf
footprint MSOP-UN10_N (TSSOP, 10-Leads, Body 3x3mm, Pitch 0.5mm, IPC Medium Density)
footprint MSOP-UN10_L (TSSOP, 10-Leads, Body 3x3mm, Pitch 0.5mm, IPC High Density)
footprint MSOP-UN10_M (TSSOP, 10-Leads, Body 3x3mm, Pitch 0.5mm, IPC Low Density)
pins: 1 ~{SHDN} (in), 2 VIN2 (power), 3 VOUT2 (out), 4 PG (oc), 5 AGND (power), 6 VFB1 (in), 7 AGND (power), 8 VIN1 (power), 9 LX (out), 10 PGND (power)

## TC1304-ZS0EUNTR
designator U?
500mA Synchronous Buck Regulator + 300mA LDO with Power-Good Output, Adjustable, 1.5V, 10-Pin MSOP, Industrial Temperature, Tape and Reel; Manufacturer: Microchip; PartNumber: TC1304-ZS0EUNTR; DatasheetVersion: revB, Jul-2005; PackageVersion: revBB, Aug-2009; PackageReference: MSOP-UN10; PackageDescription: 10-Lead Plastic Micro Small Outline Package (UN) [MSOP]; Supplier 1: Digi-Key; Supplier Part Number 1: TC1304-ZS0EUNTR-ND; Mounting Technology: Surface Mount; ComponentLink1Description: Manufacturer URL; ComponentLink1URL: http://www.microchip.com/; ComponentLink2Description: Datasheet; ComponentLink2URL: http://ww1.microchip.com/downloads/en/DeviceDoc/21949b.pdf; ComponentLink3Description: Package Specification; ComponentLink3URL: http://www.microchip.com/stellent/groups/techpub_sg/documents/packagingspec/en012702.pdf
footprint MSOP-UN10_N (TSSOP, 10-Leads, Body 3x3mm, Pitch 0.5mm, IPC Medium Density)
footprint MSOP-UN10_L (TSSOP, 10-Leads, Body 3x3mm, Pitch 0.5mm, IPC High Density)
footprint MSOP-UN10_M (TSSOP, 10-Leads, Body 3x3mm, Pitch 0.5mm, IPC Low Density)
pins: 1 ~{SHDN} (in), 2 VIN2 (power), 3 VOUT2 (out), 4 PG (oc), 5 AGND (power), 6 VFB1 (in), 7 AGND (power), 8 VIN1 (power), 9 LX (out), 10 PGND (power)

## TC1305R-DVUN
designator U?
Dual CMOS LDO With Select Mode™ Operation, Shutdown and Independent RESET Ouput, Output Current 150 mA, Max Input Voltage 6 V, Output Voltage 2.5, 2.8, 3.0 V, -40 to 125 degC, 10-pin MSOP (UN10), Tube; Manufacturer: Microchip; PartNumber: TC1305R-DVUN; PackageReference: MSOP-UN10; PackageDescription: 10-Lead MSOP, 3 x 3 mm Body, 0.5 mm Pitch; Supplier 1: Digi-Key; Supplier Part Number 1: TC1305R-DVUN-ND; Mounting Technology: Surface Mount; ComponentLink1Description: Manufacturer URL; ComponentLink1URL: http://www.microchip.com; ComponentLink2Description: Datasheet; ComponentLink2URL: http://ww1.microchip.com/downloads/en/DeviceDoc/21526b.pdf; ComponentLink3Description: Package Specification; ComponentLink3URL: http://ww1.microchip.com/downloads/en/DeviceDoc/21526b.pdf; ComponentLink4Description: Product URL; ComponentLink4URL: http://www.microchip.com/TC1305
footprint MCHP-MSOP-UN10-TC1305_N (SOP, 10-Leads, Body 3x3mm, Pitch 0.5mm, IPC Medium Density)
footprint MCHP-MSOP-UN10-TC1305_L (SOP, 10-Leads, Body 3x3mm, Pitch 0.5mm, IPC High Density)
footprint MCHP-MSOP-UN10-TC1305_M (SOP, 10-Leads, Body 3x3mm, Pitch 0.5mm, IPC Low Density)
pins: 1 VDET (in), 2 VIN (power), 3 GND (power), 4 SELECT (in), 5 ~{SHDN1} (in), 6 ~{SHDN2} (in), 7 BYPASS (in), 8 VOUT1 (power), 9 VOUT2 (power), 10 ~{RESET} (out)

## TC1313-1H0EMF
designator U?
300mA Synchronous Buck Regulator + 300mA LDO, 1.375V, 2.6V, 10-Pin DFN, Industrial Temperature; Manufacturer: Microchip; PartNumber: TC1313-1H0EMF; DatasheetVersion: revB, Jan-2009; PackageVersion: revBB, Aug-2009; PackageReference: DFN-MF10; PackageDescription: 10-Lead Plastic Dual Flat, No Lead Package (MF) - 3x3x0.9mm Body [DFN]; Supplier 1: Digi-Key; Supplier Part Number 1: TC1313-1H0EMF-ND; Mounting Technology: Surface Mount; ComponentLink1Description: Manufacturer URL; ComponentLink1URL: http://www.microchip.com/; ComponentLink2Description: Datasheet; ComponentLink2URL: http://ww1.microchip.com/downloads/en/DeviceDoc/21974b.pdf; ComponentLink3Description: Package Specification; ComponentLink3URL: http://www.microchip.com/stellent/groups/techpub_sg/documents/packagingspec/en012702.pdf
footprint DFN-MF10 (SON, 10-Leads, Body 3x3mm, Pitch 0.5mm, Microchip Recommended)
pins: 1 ~{SHDN2} (in), 2 VIN2 (power), 3 VOUT2 (out), 4 NC, 5 AGND (power), 6 VOUT1 (out), 7 ~{SHDN1} (in), 8 VIN1 (power), 9 LX (out), 10 PGND (power), 11 EP (power)

## TC1313-1H0EMFTR
designator U?
300mA Synchronous Buck Regulator + 300mA LDO, 1.375V, 2.6V, 10-Pin DFN, Industrial Temperature, Tape and Reel; Manufacturer: Microchip; PartNumber: TC1313-1H0EMFTR; DatasheetVersion: revB, Jan-2009; PackageVersion: revBB, Aug-2009; PackageReference: DFN-MF10; PackageDescription: 10-Lead Plastic Dual Flat, No Lead Package (MF) - 3x3x0.9mm Body [DFN]; Supplier 1: Digi-Key; Supplier Part Number 1: TC1313-1H0EMFTR-ND; Mounting Technology: Surface Mount; ComponentLink1Description: Manufacturer URL; ComponentLink1URL: http://www.microchip.com/; ComponentLink2Description: Datasheet; ComponentLink2URL: http://ww1.microchip.com/downloads/en/DeviceDoc/21974b.pdf; ComponentLink3Description: Package Specification; ComponentLink3URL: http://www.microchip.com/stellent/groups/techpub_sg/documents/packagingspec/en012702.pdf
footprint DFN-MF10 (SON, 10-Leads, Body 3x3mm, Pitch 0.5mm, Microchip Recommended)
pins: 1 ~{SHDN2} (in), 2 VIN2 (power), 3 VOUT2 (out), 4 NC, 5 AGND (power), 6 VOUT1 (out), 7 ~{SHDN1} (in), 8 VIN1 (power), 9 LX (out), 10 PGND (power), 11 EP (power)

## TC1313-1H0EUN
designator U?
300mA Synchronous Buck Regulator + 300mA LDO, 1.375V, 2.6V, 10-Pin MSOP, Industrial Temperature; Manufacturer: Microchip; PartNumber: TC1313-1H0EUN; DatasheetVersion: revB, Jan-2009; PackageVersion: revBB, Aug-2009; PackageReference: MSOP-UN10; PackageDescription: 10-Lead Plastic Micro Small Outline Package (UN) [MSOP]; Supplier 1: Digi-Key; Supplier Part Number 1: TC1313-1H0EUN-ND; Mounting Technology: Surface Mount; ComponentLink1Description: Manufacturer URL; ComponentLink1URL: http://www.microchip.com/; ComponentLink2Description: Datasheet; ComponentLink2URL: http://ww1.microchip.com/downloads/en/DeviceDoc/21974b.pdf; ComponentLink3Description: Package Specification; ComponentLink3URL: http://www.microchip.com/stellent/groups/techpub_sg/documents/packagingspec/en012702.pdf
footprint MSOP-UN10_N (TSSOP, 10-Leads, Body 3x3mm, Pitch 0.5mm, IPC Medium Density)
footprint MSOP-UN10_L (TSSOP, 10-Leads, Body 3x3mm, Pitch 0.5mm, IPC High Density)
footprint MSOP-UN10_M (TSSOP, 10-Leads, Body 3x3mm, Pitch 0.5mm, IPC Low Density)
pins: 1 ~{SHDN2} (in), 2 VIN2 (power), 3 VOUT2 (out), 4 NC, 5 AGND (power), 6 VOUT1 (out), 7 ~{SHDN1} (in), 8 VIN1 (power), 9 LX (out), 10 PGND (power)

## TC1313-1H0EUNTR
designator U?
300mA Synchronous Buck Regulator + 300mA LDO, 1.375V, 2.6V, 10-Pin MSOP, Industrial Temperature, Tape and Reel; Manufacturer: Microchip; PartNumber: TC1313-1H0EUNTR; DatasheetVersion: revB, Jan-2009; PackageVersion: revBB, Aug-2009; PackageReference: MSOP-UN10; PackageDescription: 10-Lead Plastic Micro Small Outline Package (UN) [MSOP]; Supplier 1: Digi-Key; Supplier Part Number 1: TC1313-1H0EUNTR-ND; Mounting Technology: Surface Mount; ComponentLink1Description: Manufacturer URL; ComponentLink1URL: http://www.microchip.com/; ComponentLink2Description: Datasheet; ComponentLink2URL: http://ww1.microchip.com/downloads/en/DeviceDoc/21974b.pdf; ComponentLink3Description: Package Specification; ComponentLink3URL: http://www.microchip.com/stellent/groups/techpub_sg/documents/packagingspec/en012702.pdf
footprint MSOP-UN10_N (TSSOP, 10-Leads, Body 3x3mm, Pitch 0.5mm, IPC Medium Density)
footprint MSOP-UN10_L (TSSOP, 10-Leads, Body 3x3mm, Pitch 0.5mm, IPC High Density)
footprint MSOP-UN10_M (TSSOP, 10-Leads, Body 3x3mm, Pitch 0.5mm, IPC Low Density)
pins: 1 ~{SHDN2} (in), 2 VIN2 (power), 3 VOUT2 (out), 4 NC, 5 AGND (power), 6 VOUT1 (out), 7 ~{SHDN1} (in), 8 VIN1 (power), 9 LX (out), 10 PGND (power)

## TC1313-1P0EMF
designator U?
300mA Synchronous Buck Regulator + 300mA LDO, 1.375V, 1.8V, 10-Pin DFN, Industrial Temperature; Manufacturer: Microchip; PartNumber: TC1313-1P0EMF; DatasheetVersion: revB, Jan-2009; PackageVersion: revBB, Aug-2009; PackageReference: DFN-MF10; PackageDescription: 10-Lead Plastic Dual Flat, No Lead Package (MF) - 3x3x0.9mm Body [DFN]; Supplier 1: Digi-Key; Supplier Part Number 1: TC1313-1P0EMF-ND; Mounting Technology: Surface Mount; ComponentLink1Description: Manufacturer URL; ComponentLink1URL: http://www.microchip.com/; ComponentLink2Description: Datasheet; ComponentLink2URL: http://ww1.microchip.com/downloads/en/DeviceDoc/21974b.pdf; ComponentLink3Description: Package Specification; ComponentLink3URL: http://www.microchip.com/stellent/groups/techpub_sg/documents/packagingspec/en012702.pdf
footprint DFN-MF10 (SON, 10-Leads, Body 3x3mm, Pitch 0.5mm, Microchip Recommended)
pins: 1 ~{SHDN2} (in), 2 VIN2 (power), 3 VOUT2 (out), 4 NC, 5 AGND (power), 6 VOUT1 (out), 7 ~{SHDN1} (in), 8 VIN1 (power), 9 LX (out), 10 PGND (power), 11 EP (power)

## TC1313-1P0EMFTR
designator U?
300mA Synchronous Buck Regulator + 300mA LDO, 1.375V, 1.8V, 10-Pin DFN, Industrial Temperature, Tape and Reel; Manufacturer: Microchip; PartNumber: TC1313-1P0EMFTR; DatasheetVersion: revB, Jan-2009; PackageVersion: revBB, Aug-2009; PackageReference: DFN-MF10; PackageDescription: 10-Lead Plastic Dual Flat, No Lead Package (MF) - 3x3x0.9mm Body [DFN]; Supplier 1: Digi-Key; Supplier Part Number 1: TC1313-1P0EMFTR-ND; Mounting Technology: Surface Mount; ComponentLink1Description: Manufacturer URL; ComponentLink1URL: http://www.microchip.com/; ComponentLink2Description: Datasheet; ComponentLink2URL: http://ww1.microchip.com/downloads/en/DeviceDoc/21974b.pdf; ComponentLink3Description: Package Specification; ComponentLink3URL: http://www.microchip.com/stellent/groups/techpub_sg/documents/packagingspec/en012702.pdf
footprint DFN-MF10 (SON, 10-Leads, Body 3x3mm, Pitch 0.5mm, Microchip Recommended)
pins: 1 ~{SHDN2} (in), 2 VIN2 (power), 3 VOUT2 (out), 4 NC, 5 AGND (power), 6 VOUT1 (out), 7 ~{SHDN1} (in), 8 VIN1 (power), 9 LX (out), 10 PGND (power), 11 EP (power)

## TC1313-1P0EUN
designator U?
300mA Synchronous Buck Regulator + 300mA LDO, 1.375V, 1.8V, 10-Pin MSOP, Industrial Temperature; Manufacturer: Microchip; PartNumber: TC1313-1P0EUN; DatasheetVersion: revB, Jan-2009; PackageVersion: revBB, Aug-2009; PackageReference: MSOP-UN10; PackageDescription: 10-Lead Plastic Micro Small Outline Package (UN) [MSOP]; Supplier 1: Digi-Key; Supplier Part Number 1: TC1313-1P0EUN-ND; Mounting Technology: Surface Mount; ComponentLink1Description: Manufacturer URL; ComponentLink1URL: http://www.microchip.com/; ComponentLink2Description: Datasheet; ComponentLink2URL: http://ww1.microchip.com/downloads/en/DeviceDoc/21974b.pdf; ComponentLink3Description: Package Specification; ComponentLink3URL: http://www.microchip.com/stellent/groups/techpub_sg/documents/packagingspec/en012702.pdf
footprint MSOP-UN10_N (TSSOP, 10-Leads, Body 3x3mm, Pitch 0.5mm, IPC Medium Density)
footprint MSOP-UN10_L (TSSOP, 10-Leads, Body 3x3mm, Pitch 0.5mm, IPC High Density)
footprint MSOP-UN10_M (TSSOP, 10-Leads, Body 3x3mm, Pitch 0.5mm, IPC Low Density)
pins: 1 ~{SHDN2} (in), 2 VIN2 (power), 3 VOUT2 (out), 4 NC, 5 AGND (power), 6 VOUT1 (out), 7 ~{SHDN1} (in), 8 VIN1 (power), 9 LX (out), 10 PGND (power)

## TC1313-1P0EUNTR
designator U?
300mA Synchronous Buck Regulator + 300mA LDO, 1.375V, 1.8V, 10-Pin MSOP, Industrial Temperature, Tape and Reel; Manufacturer: Microchip; PartNumber: TC1313-1P0EUNTR; DatasheetVersion: revB, Jan-2009; PackageVersion: revBB, Aug-2009; PackageReference: MSOP-UN10; PackageDescription: 10-Lead Plastic Micro Small Outline Package (UN) [MSOP]; Supplier 1: Digi-Key; Supplier Part Number 1: TC1313-1P0EUNTR-ND; Mounting Technology: Surface Mount; ComponentLink1Description: Manufacturer URL; ComponentLink1URL: http://www.microchip.com/; ComponentLink2Description: Datasheet; ComponentLink2URL: http://ww1.microchip.com/downloads/en/DeviceDoc/21974b.pdf; ComponentLink3Description: Package Specification; ComponentLink3URL: http://www.microchip.com/stellent/groups/techpub_sg/documents/packagingspec/en012702.pdf
footprint MSOP-UN10_N (TSSOP, 10-Leads, Body 3x3mm, Pitch 0.5mm, IPC Medium Density)
footprint MSOP-UN10_L (TSSOP, 10-Leads, Body 3x3mm, Pitch 0.5mm, IPC High Density)
footprint MSOP-UN10_M (TSSOP, 10-Leads, Body 3x3mm, Pitch 0.5mm, IPC Low Density)
pins: 1 ~{SHDN2} (in), 2 VIN2 (power), 3 VOUT2 (out), 4 NC, 5 AGND (power), 6 VOUT1 (out), 7 ~{SHDN1} (in), 8 VIN1 (power), 9 LX (out), 10 PGND (power)

## TC1313-DG0EMF
designator U?
300mA Synchronous Buck Regulator + 300mA LDO, 3.0V, 2.7V, 10-Pin DFN, Industrial Temperature; Manufacturer: Microchip; PartNumber: TC1313-DG0EMF; DatasheetVersion: revB, Jan-2009; PackageVersion: revBB, Aug-2009; PackageReference: DFN-MF10; PackageDescription: 10-Lead Plastic Dual Flat, No Lead Package (MF) - 3x3x0.9mm Body [DFN]; Supplier 1: Digi-Key; Supplier Part Number 1: TC1313-DG0EMF-ND; Mounting Technology: Surface Mount; ComponentLink1Description: Manufacturer URL; ComponentLink1URL: http://www.microchip.com/; ComponentLink2Description: Datasheet; ComponentLink2URL: http://ww1.microchip.com/downloads/en/DeviceDoc/21974b.pdf; ComponentLink3Description: Package Specification; ComponentLink3URL: http://www.microchip.com/stellent/groups/techpub_sg/documents/packagingspec/en012702.pdf
footprint DFN-MF10 (SON, 10-Leads, Body 3x3mm, Pitch 0.5mm, Microchip Recommended)
pins: 1 ~{SHDN2} (in), 2 VIN2 (power), 3 VOUT2 (out), 4 NC, 5 AGND (power), 6 VOUT1 (out), 7 ~{SHDN1} (in), 8 VIN1 (power), 9 LX (out), 10 PGND (power), 11 EP (power)

## TC1313-DG0EMFTR
designator U?
300mA Synchronous Buck Regulator + 300mA LDO, 3.0V, 2.7V, 10-Pin DFN, Industrial Temperature, Tape and Reel; Manufacturer: Microchip; PartNumber: TC1313-DG0EMFTR; DatasheetVersion: revB, Jan-2009; PackageVersion: revBB, Aug-2009; PackageReference: DFN-MF10; PackageDescription: 10-Lead Plastic Dual Flat, No Lead Package (MF) - 3x3x0.9mm Body [DFN]; Supplier 1: Digi-Key; Supplier Part Number 1: TC1313-DG0EMFTR-ND; Mounting Technology: Surface Mount; ComponentLink1Description: Manufacturer URL; ComponentLink1URL: http://www.microchip.com/; ComponentLink2Description: Datasheet; ComponentLink2URL: http://ww1.microchip.com/downloads/en/DeviceDoc/21974b.pdf; ComponentLink3Description: Package Specification; ComponentLink3URL: http://www.microchip.com/stellent/groups/techpub_sg/documents/packagingspec/en012702.pdf
footprint DFN-MF10 (SON, 10-Leads, Body 3x3mm, Pitch 0.5mm, Microchip Recommended)
pins: 1 ~{SHDN2} (in), 2 VIN2 (power), 3 VOUT2 (out), 4 NC, 5 AGND (power), 6 VOUT1 (out), 7 ~{SHDN1} (in), 8 VIN1 (power), 9 LX (out), 10 PGND (power), 11 EP (power)